# Altium integrated library Microchip Mixed Signal.IntLib: 1399 symbols (part 33 of 39)
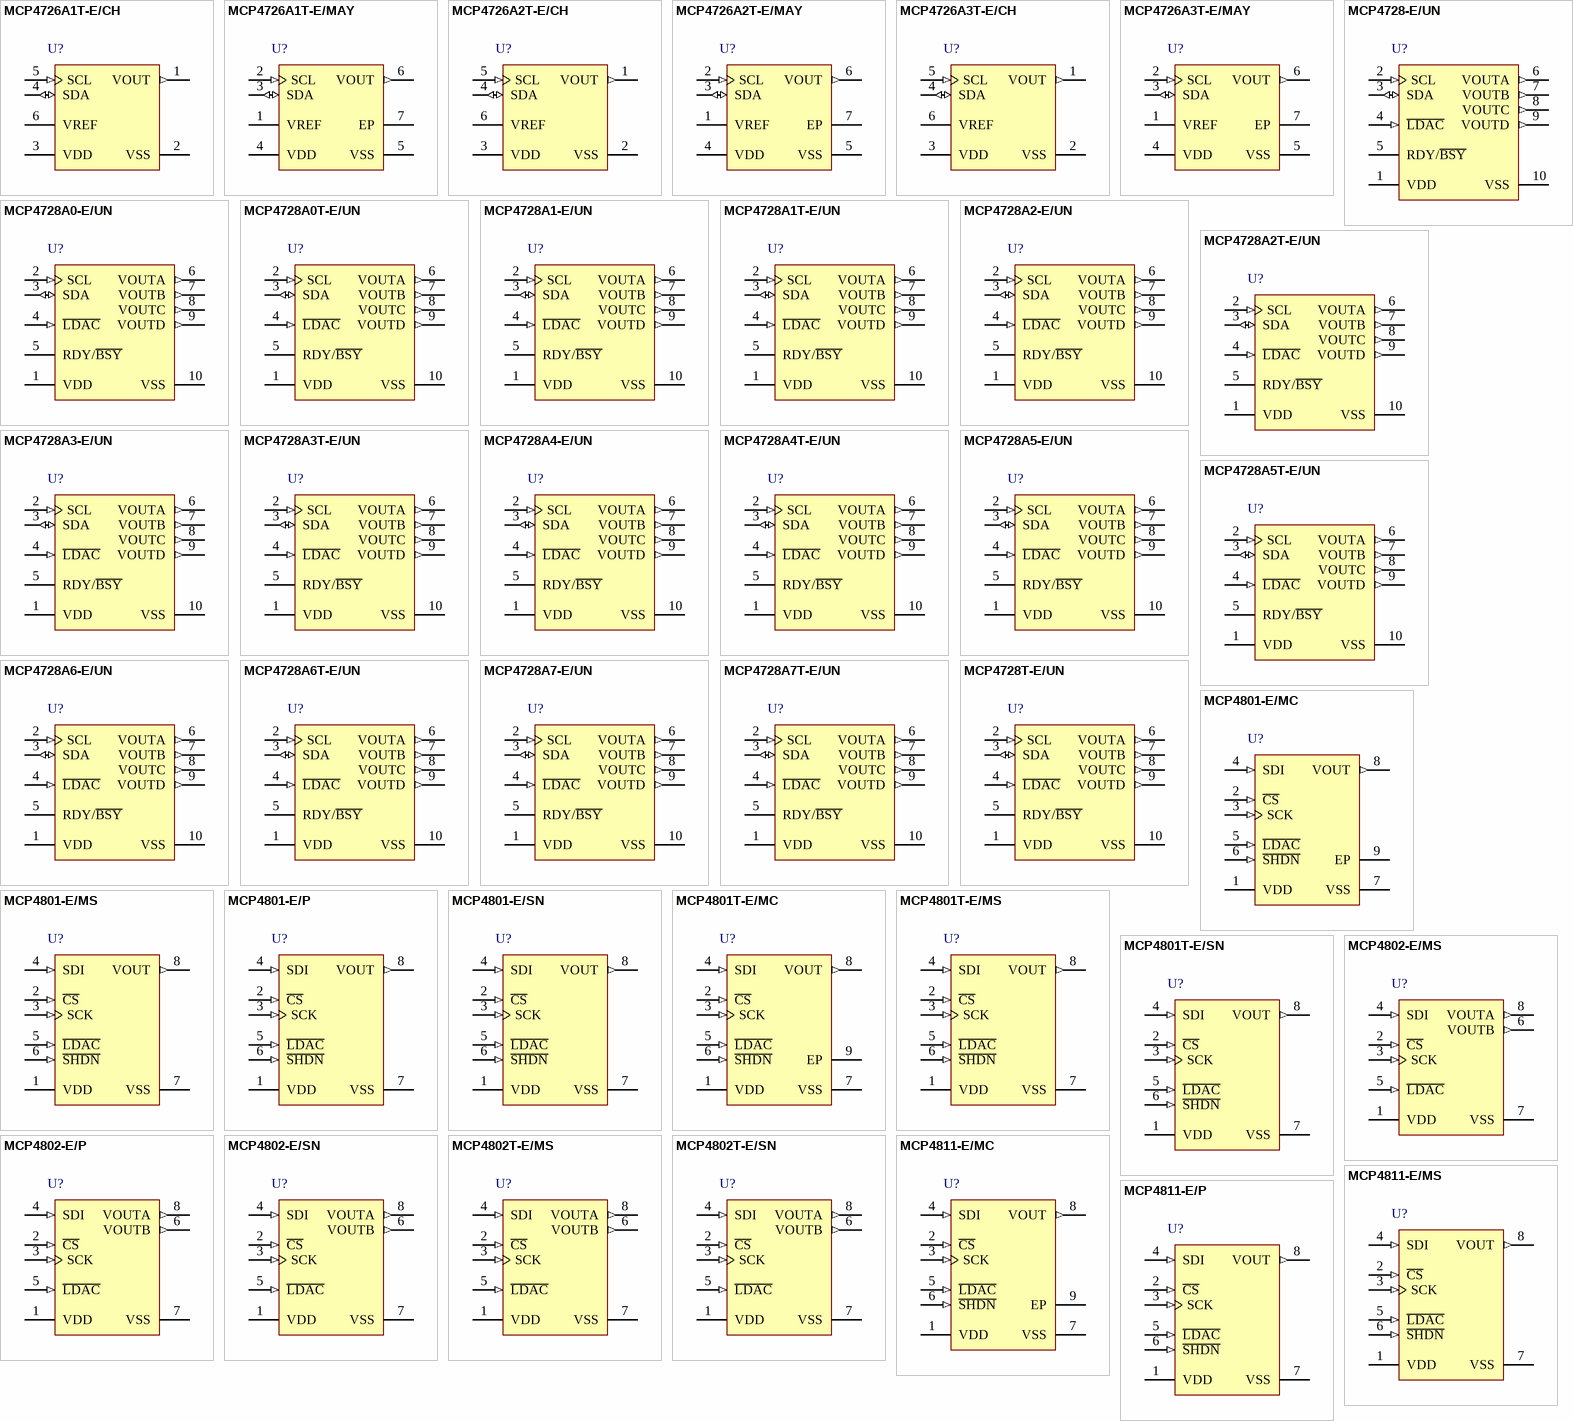
[diagram p76: symbols MCP4726A1T-E/CH to MCP4811-E/P]

## MCP4811-E/P
designator U?
10-Bit DACs with Internal VREF and SPI Interface, 8-Pin PDIP, Extended Temperature; Manufacturer: Microchip; PartNumber: MCP4811-E/P; DatasheetVersion: revB, Apr-2010; PackageVersion: revBB, Aug-2009; PackageReference: PDIP300-P8; PackageDescription: 8-Lead Plastic Dual In-Line (P) - 300 mil Body [PDIP]; Supplier 1: Digi-Key; Supplier Part Number 1: MCP4811-E/P-ND; Supplier 2: Farnell; Supplier Part Number 2: 1815941; Supplier 3: Newark; Supplier Part Number 3: 53R0077; Supplier 4: Mouser; Supplier Part Number 4: 579-MCP4811-E/P; Mounting Technology: Through Hole; Code_JEDEC: MS-001; ComponentLink1Description: Manufacturer URL; ComponentLink1URL: http://www.microchip.com/; ComponentLink2Description: Datasheet; ComponentLink2URL: http://ww1.microchip.com/downloads/en/DeviceDoc/22244B.pdf; ComponentLink3Description: Package Specification; ComponentLink3URL: http://www.microchip.com/stellent/groups/techpub_sg/documents/packagingspec/en012702.pdf
footprint PDIP300-P8 (DIP, 8-Leads, Row Spacing 7.62mm, Pitch 2.54mm, Body 9.5x6.6mm)
pins: 1 VDD (power), 2 ~{CS} (in), 3 SCK (in), 4 SDI (in), 5 ~{LDAC} (in), 6 ~{SHDN} (in), 7 VSS (power), 8 VOUT (out)

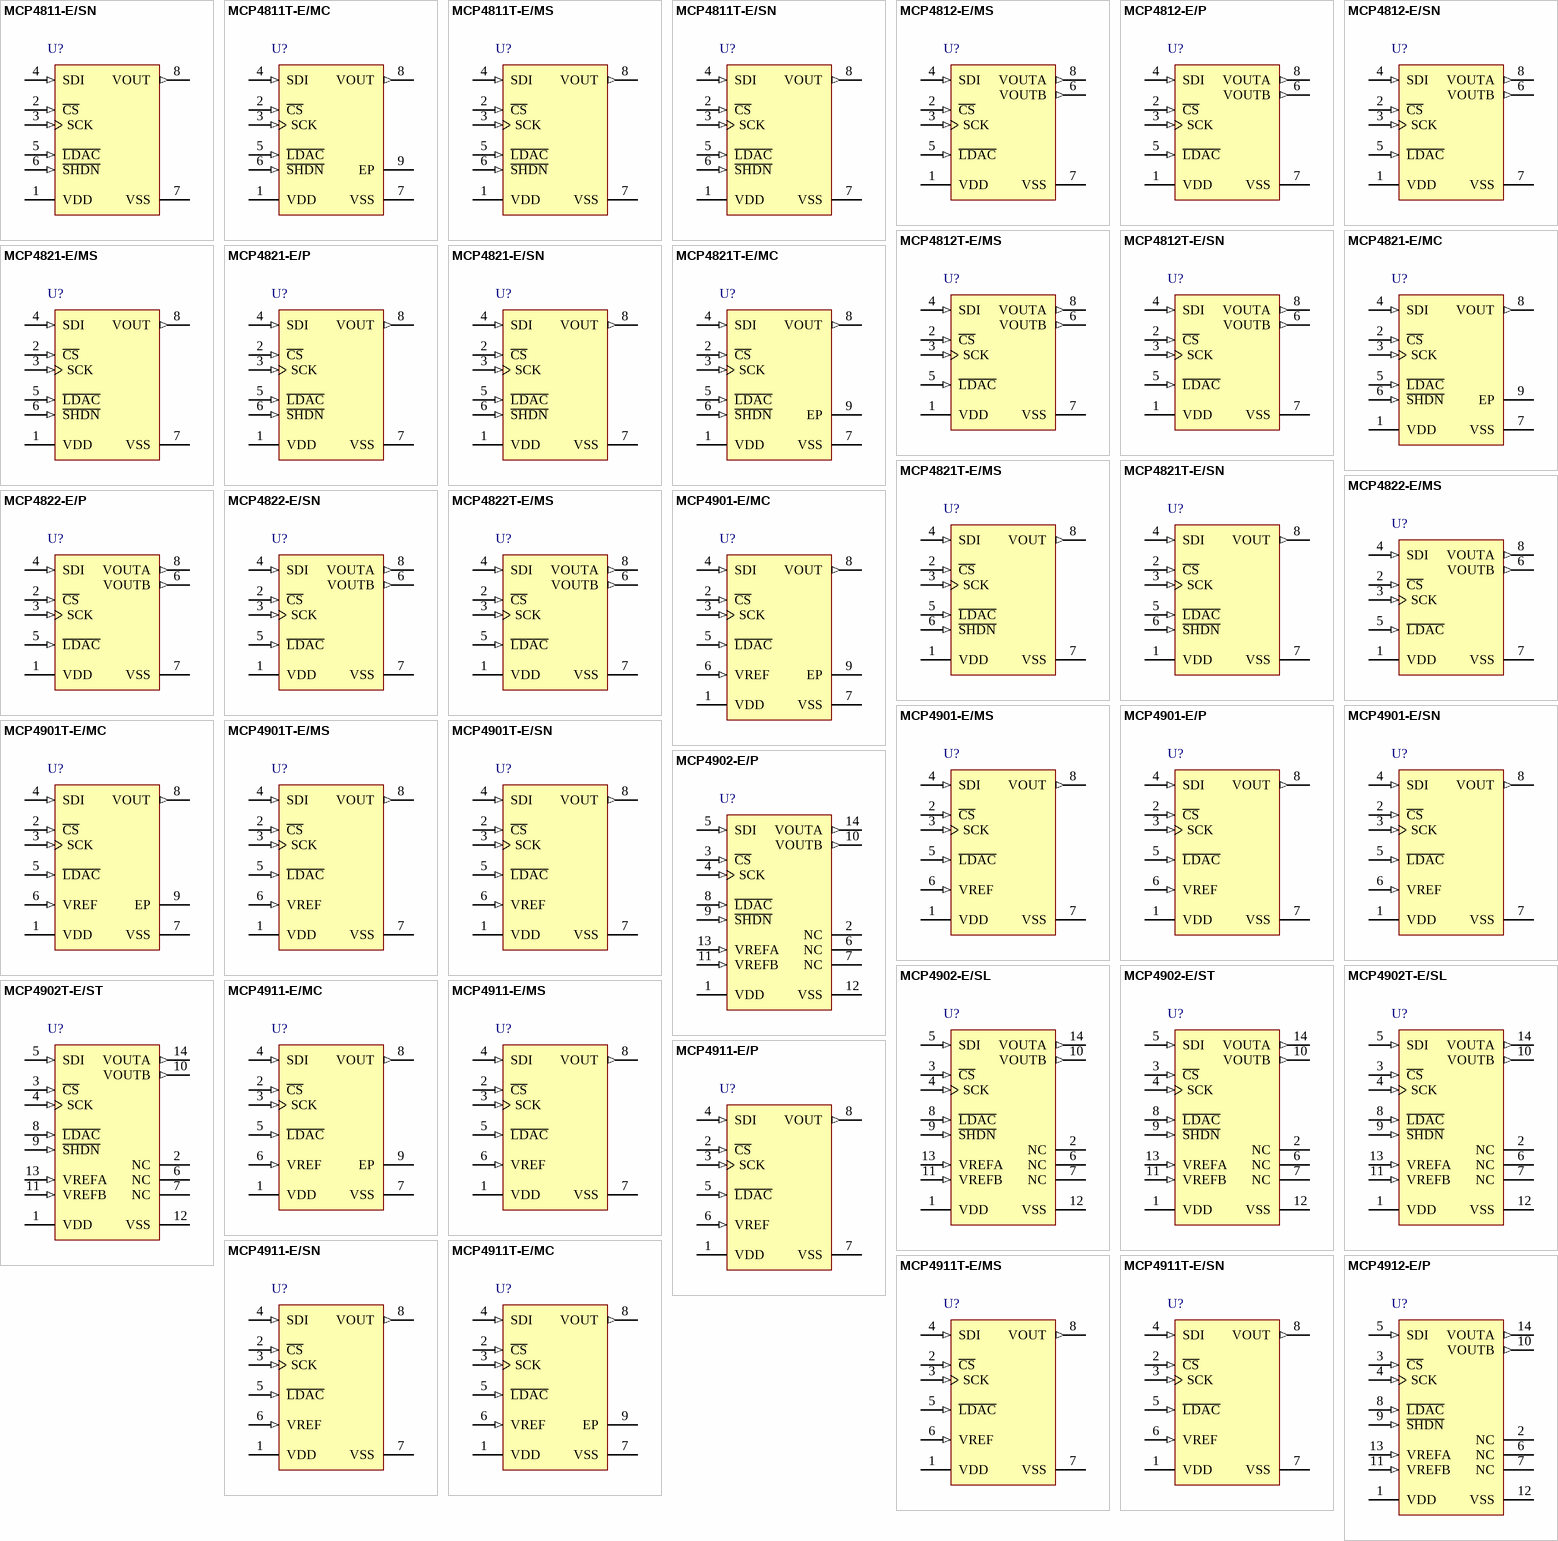
[diagram p34: symbols MCP4811-E/SN to MCP4912-E/P]

## MCP4811-E/SN
designator U?
10-Bit DACs with Internal VREF and SPI Interface, 8-Pin SOIC 150mil, Extended Temperature; Manufacturer: Microchip; PartNumber: MCP4811-E/SN; DatasheetVersion: revB, Apr-2010; PackageVersion: revBB, Aug-2009; PackageReference: SOIC-SN8; PackageDescription: 8-Lead Plastic Small Outline (SN) - Narrow, 3.90mm Body [SOIC]; Supplier 1: Digi-Key; Supplier Part Number 1: MCP4811-E/SN-ND; Supplier 2: Mouser; Supplier Part Number 2: 579-MCP4811-E/SN; Mounting Technology: Surface Mount; Code_JEDEC: MS-012; Code_IPC: SOIC127P600-8; ComponentLink1Description: Manufacturer URL; ComponentLink1URL: http://www.microchip.com/; ComponentLink2Description: Datasheet; ComponentLink2URL: http://ww1.microchip.com/downloads/en/DeviceDoc/22244B.pdf; ComponentLink3Description: Package Specification; ComponentLink3URL: http://www.microchip.com/stellent/groups/techpub_sg/documents/packagingspec/en012702.pdf
footprint SOIC-SN8_N (SOIC, 8-Leads, Body 4.9x3.8mm, Pitch 1.27mm, IPC Medium Density)
footprint SOIC-SN8_L (SOIC, 8-Leads, Body 4.9x3.8mm, Pitch 1.27mm, IPC High Density)
footprint SOIC-SN8_M (SOIC, 8-Leads, Body 4.9x3.8mm, Pitch 1.27mm, IPC Low Density)
pins: 1 VDD (power), 2 ~{CS} (in), 3 SCK (in), 4 SDI (in), 5 ~{LDAC} (in), 6 ~{SHDN} (in), 7 VSS (power), 8 VOUT (out)

## MCP4811T-E/MC
designator U?
10-Bit DACs with Internal VREF and SPI Interface, 8-Pin DFN, Extended Temperature, Tape and Reel; Manufacturer: Microchip; PartNumber: MCP4811T-E/MC; DatasheetVersion: revB, Apr-2010; PackageVersion: revBB, Aug-2009; PackageReference: DFN-MC8; PackageDescription: 8-Lead Plastic Dual Flat, No Lead Package (MC) - 2x3x0.9mm Body [DFN]; Supplier 1: Digi-Key; Supplier Part Number 1: MCP4811T-E/MC-ND; Supplier 2: Mouser; Supplier Part Number 2: 579-MCP4811T-E/MC; Mounting Technology: Surface Mount; ComponentLink1Description: Manufacturer URL; ComponentLink1URL: http://www.microchip.com/; ComponentLink2Description: Datasheet; ComponentLink2URL: http://ww1.microchip.com/downloads/en/DeviceDoc/22244B.pdf; ComponentLink3Description: Package Specification; ComponentLink3URL: http://www.microchip.com/stellent/groups/techpub_sg/documents/packagingspec/en012702.pdf
footprint DFN-MC8 (SON, 8-Leads, Body 2x3mm, Pitch 0.5mm, Microchip Recommended)
pins: 1 VDD (power), 2 ~{CS} (in), 3 SCK (in), 4 SDI (in), 5 ~{LDAC} (in), 6 ~{SHDN} (in), 7 VSS (power), 8 VOUT (out), 9 EP

## MCP4811T-E/MS
designator U?
10-Bit DACs with Internal VREF and SPI Interface, 8-Pin MSOP, Extended Temperature, Tape and Reel; Manufacturer: Microchip; PartNumber: MCP4811T-E/MS; DatasheetVersion: revB, Apr-2010; PackageVersion: revBB, Aug-2009; PackageReference: MSOP-MS8; PackageDescription: 8-Lead Plastic Micro Small Outline Package (MS) [MSOP]; Supplier 1: Digi-Key; Supplier Part Number 1: MCP4811T-E/MS-ND; Supplier 2: Mouser; Supplier Part Number 2: 579-MCP4811T-E/MS; Mounting Technology: Surface Mount; ComponentLink1Description: Manufacturer URL; ComponentLink1URL: http://www.microchip.com/; ComponentLink2Description: Datasheet; ComponentLink2URL: http://ww1.microchip.com/downloads/en/DeviceDoc/22244B.pdf; ComponentLink3Description: Package Specification; ComponentLink3URL: http://www.microchip.com/stellent/groups/techpub_sg/documents/packagingspec/en012702.pdf
footprint MSOP-MS8_N (TSOP, 8-Leads, Body 3x3mm, Pitch 0.65mm, IPC Medium Density)
footprint MSOP-MS8_L (TSOP, 8-Leads, Body 3x3mm, Pitch 0.65mm, IPC High Density)
footprint MSOP-MS8_M (TSOP, 8-Leads, Body 3x3mm, Pitch 0.65mm, IPC Low Density)
pins: 1 VDD (power), 2 ~{CS} (in), 3 SCK (in), 4 SDI (in), 5 ~{LDAC} (in), 6 ~{SHDN} (in), 7 VSS (power), 8 VOUT (out)

## MCP4811T-E/SN
designator U?
10-Bit DACs with Internal VREF and SPI Interface, 8-Pin SOIC 150mil, Extended Temperature, Tape and Reel; Manufacturer: Microchip; PartNumber: MCP4811T-E/SN; DatasheetVersion: revB, Apr-2010; PackageVersion: revBB, Aug-2009; PackageReference: SOIC-SN8; PackageDescription: 8-Lead Plastic Small Outline (SN) - Narrow, 3.90mm Body [SOIC]; Supplier 1: Digi-Key; Supplier Part Number 1: MCP4811T-E/SN-ND; Supplier 2: Mouser; Supplier Part Number 2: 579-MCP4811T-E/SN; Mounting Technology: Surface Mount; Code_JEDEC: MS-012; Code_IPC: SOIC127P600-8; ComponentLink1Description: Manufacturer URL; ComponentLink1URL: http://www.microchip.com/; ComponentLink2Description: Datasheet; ComponentLink2URL: http://ww1.microchip.com/downloads/en/DeviceDoc/22244B.pdf; ComponentLink3Description: Package Specification; ComponentLink3URL: http://www.microchip.com/stellent/groups/techpub_sg/documents/packagingspec/en012702.pdf
footprint SOIC-SN8_N (SOIC, 8-Leads, Body 4.9x3.8mm, Pitch 1.27mm, IPC Medium Density)
footprint SOIC-SN8_L (SOIC, 8-Leads, Body 4.9x3.8mm, Pitch 1.27mm, IPC High Density)
footprint SOIC-SN8_M (SOIC, 8-Leads, Body 4.9x3.8mm, Pitch 1.27mm, IPC Low Density)
pins: 1 VDD (power), 2 ~{CS} (in), 3 SCK (in), 4 SDI (in), 5 ~{LDAC} (in), 6 ~{SHDN} (in), 7 VSS (power), 8 VOUT (out)

## MCP4812-E/MS
designator U?
10-Bit DACs with Internal VREF and SPI Interface, 8-Pin MSOP, Extended Temperature; Manufacturer: Microchip; PartNumber: MCP4812-E/MS; DatasheetVersion: revA, Apr-2010; PackageVersion: revBB, Aug-2009; PackageReference: MSOP-MS8; PackageDescription: 8-Lead Plastic Micro Small Outline Package (MS) [MSOP]; Supplier 1: Digi-Key; Supplier Part Number 1: MCP4812-E/MS-ND; Supplier 2: Newark; Supplier Part Number 2: 53R0082; Supplier 3: Mouser; Supplier Part Number 3: 579-MCP4812-E/MS; Mounting Technology: Surface Mount; ComponentLink1Description: Manufacturer URL; ComponentLink1URL: http://www.microchip.com/; ComponentLink2Description: Datasheet; ComponentLink2URL: http://ww1.microchip.com/downloads/en/DeviceDoc/22249A.pdf; ComponentLink3Description: Package Specification; ComponentLink3URL: http://www.microchip.com/stellent/groups/techpub_sg/documents/packagingspec/en012702.pdf
footprint MSOP-MS8_N (TSOP, 8-Leads, Body 3x3mm, Pitch 0.65mm, IPC Medium Density)
footprint MSOP-MS8_L (TSOP, 8-Leads, Body 3x3mm, Pitch 0.65mm, IPC High Density)
footprint MSOP-MS8_M (TSOP, 8-Leads, Body 3x3mm, Pitch 0.65mm, IPC Low Density)
pins: 1 VDD (power), 2 ~{CS} (in), 3 SCK (in), 4 SDI (in), 5 ~{LDAC} (in), 6 VOUTB (out), 7 VSS (power), 8 VOUTA (out)

## MCP4812-E/P
designator U?
10-Bit DACs with Internal VREF and SPI Interface, 8-Pin PDIP, Extended Temperature; Manufacturer: Microchip; PartNumber: MCP4812-E/P; DatasheetVersion: revA, Apr-2010; PackageVersion: revBB, Aug-2009; PackageReference: PDIP300-P8; PackageDescription: 8-Lead Plastic Dual In-Line (P) - 300 mil Body [PDIP]; Supplier 1: Digi-Key; Supplier Part Number 1: MCP4812-E/P-ND; Supplier 2: Farnell; Supplier Part Number 2: 1815943; Supplier 3: Newark; Supplier Part Number 3: 53R0083; Supplier 4: Mouser; Supplier Part Number 4: 579-MCP4812-E/P; Mounting Technology: Through Hole; Code_JEDEC: MS-001; ComponentLink1Description: Manufacturer URL; ComponentLink1URL: http://www.microchip.com/; ComponentLink2Description: Datasheet; ComponentLink2URL: http://ww1.microchip.com/downloads/en/DeviceDoc/22249A.pdf; ComponentLink3Description: Package Specification; ComponentLink3URL: http://www.microchip.com/stellent/groups/techpub_sg/documents/packagingspec/en012702.pdf
footprint PDIP300-P8 (DIP, 8-Leads, Row Spacing 7.62mm, Pitch 2.54mm, Body 9.5x6.6mm)
pins: 1 VDD (power), 2 ~{CS} (in), 3 SCK (in), 4 SDI (in), 5 ~{LDAC} (in), 6 VOUTB (out), 7 VSS (power), 8 VOUTA (out)

## MCP4812-E/SN
designator U?
10-Bit DACs with Internal VREF and SPI Interface, 8-Pin SOIC 150mil, Extended Temperature; Manufacturer: Microchip; PartNumber: MCP4812-E/SN; DatasheetVersion: revA, Apr-2010; PackageVersion: revBB, Aug-2009; PackageReference: SOIC-SN8; PackageDescription: 8-Lead Plastic Small Outline (SN) - Narrow, 3.90mm Body [SOIC]; Supplier 1: Digi-Key; Supplier Part Number 1: MCP4812-E/SN-ND; Supplier 2: Farnell; Supplier Part Number 2: 1834912; Supplier 3: Newark; Supplier Part Number 3: 53R0084; Supplier 4: Mouser; Supplier Part Number 4: 579-MCP4812-E/SN; Mounting Technology: Surface Mount; Code_JEDEC: MS-012; Code_IPC: SOIC127P600-8; ComponentLink1Description: Manufacturer URL; ComponentLink1URL: http://www.microchip.com/; ComponentLink2Description: Datasheet; ComponentLink2URL: http://ww1.microchip.com/downloads/en/DeviceDoc/22249A.pdf; ComponentLink3Description: Package Specification; ComponentLink3URL: http://www.microchip.com/stellent/groups/techpub_sg/documents/packagingspec/en012702.pdf
footprint SOIC-SN8_N (SOIC, 8-Leads, Body 4.9x3.8mm, Pitch 1.27mm, IPC Medium Density)
footprint SOIC-SN8_L (SOIC, 8-Leads, Body 4.9x3.8mm, Pitch 1.27mm, IPC High Density)
footprint SOIC-SN8_M (SOIC, 8-Leads, Body 4.9x3.8mm, Pitch 1.27mm, IPC Low Density)
pins: 1 VDD (power), 2 ~{CS} (in), 3 SCK (in), 4 SDI (in), 5 ~{LDAC} (in), 6 VOUTB (out), 7 VSS (power), 8 VOUTA (out)

## MCP4812T-E/MS
designator U?
10-Bit DACs with Internal VREF and SPI Interface, 8-Pin MSOP, Extended Temperature, Tape and Reel; Manufacturer: Microchip; PartNumber: MCP4812T-E/MS; DatasheetVersion: revA, Apr-2010; PackageVersion: revBB, Aug-2009; PackageReference: MSOP-MS8; PackageDescription: 8-Lead Plastic Micro Small Outline Package (MS) [MSOP]; Supplier 1: Digi-Key; Supplier Part Number 1: MCP4812T-E/MS-ND; Supplier 2: Mouser; Supplier Part Number 2: 579-MCP4812T-E/MS; Mounting Technology: Surface Mount; ComponentLink1Description: Manufacturer URL; ComponentLink1URL: http://www.microchip.com/; ComponentLink2Description: Datasheet; ComponentLink2URL: http://ww1.microchip.com/downloads/en/DeviceDoc/22249A.pdf; ComponentLink3Description: Package Specification; ComponentLink3URL: http://www.microchip.com/stellent/groups/techpub_sg/documents/packagingspec/en012702.pdf
footprint MSOP-MS8_N (TSOP, 8-Leads, Body 3x3mm, Pitch 0.65mm, IPC Medium Density)
footprint MSOP-MS8_L (TSOP, 8-Leads, Body 3x3mm, Pitch 0.65mm, IPC High Density)
footprint MSOP-MS8_M (TSOP, 8-Leads, Body 3x3mm, Pitch 0.65mm, IPC Low Density)
pins: 1 VDD (power), 2 ~{CS} (in), 3 SCK (in), 4 SDI (in), 5 ~{LDAC} (in), 6 VOUTB (out), 7 VSS (power), 8 VOUTA (out)

## MCP4812T-E/SN
designator U?
10-Bit DACs with Internal VREF and SPI Interface, 8-Pin SOIC 150mil, Extended Temperature, Tape and Reel; Manufacturer: Microchip; PartNumber: MCP4812T-E/SN; DatasheetVersion: revA, Apr-2010; PackageVersion: revBB, Aug-2009; PackageReference: SOIC-SN8; PackageDescription: 8-Lead Plastic Small Outline (SN) - Narrow, 3.90mm Body [SOIC]; Mounting Technology: Surface Mount; Code_JEDEC: MS-012; Code_IPC: SOIC127P600-8; ComponentLink1Description: Manufacturer URL; ComponentLink1URL: http://www.microchip.com/; ComponentLink2Description: Datasheet; ComponentLink2URL: http://ww1.microchip.com/downloads/en/DeviceDoc/22249A.pdf; ComponentLink3Description: Package Specification; ComponentLink3URL: http://www.microchip.com/stellent/groups/techpub_sg/documents/packagingspec/en012702.pdf
footprint SOIC-SN8_N (SOIC, 8-Leads, Body 4.9x3.8mm, Pitch 1.27mm, IPC Medium Density)
footprint SOIC-SN8_L (SOIC, 8-Leads, Body 4.9x3.8mm, Pitch 1.27mm, IPC High Density)
footprint SOIC-SN8_M (SOIC, 8-Leads, Body 4.9x3.8mm, Pitch 1.27mm, IPC Low Density)
pins: 1 VDD (power), 2 ~{CS} (in), 3 SCK (in), 4 SDI (in), 5 ~{LDAC} (in), 6 VOUTB (out), 7 VSS (power), 8 VOUTA (out)

## MCP4821-E/MC
designator U?
12-Bit DACs with Internal VREF and SPI Interface, 8-PinDFN, Extended Temperature; Manufacturer: Microchip; PartNumber: MCP4821-E/MC; DatasheetVersion: revB, Apr-2010; PackageVersion: revBB, Aug-2009; PackageReference: DFN-MC8; PackageDescription: 8-Lead Plastic Dual Flat, No Lead Package (MC) - 2x3x0.9mm Body [DFN]; Supplier 1: Digi-Key; Supplier Part Number 1: MCP4821-E/MC-ND; Supplier 2: Mouser; Supplier Part Number 2: 579-MCP4821-E/MC; Mounting Technology: Surface Mount; ComponentLink1Description: Manufacturer URL; ComponentLink1URL: http://www.microchip.com/; ComponentLink2Description: Datasheet; ComponentLink2URL: http://ww1.microchip.com/downloads/en/DeviceDoc/22244B.pdf; ComponentLink3Description: Package Specification; ComponentLink3URL: http://www.microchip.com/stellent/groups/techpub_sg/documents/packagingspec/en012702.pdf
footprint DFN-MC8 (SON, 8-Leads, Body 2x3mm, Pitch 0.5mm, Microchip Recommended)
pins: 1 VDD (power), 2 ~{CS} (in), 3 SCK (in), 4 SDI (in), 5 ~{LDAC} (in), 6 ~{SHDN} (in), 7 VSS (power), 8 VOUT (out), 9 EP

## MCP4821-E/MS
designator U?
12-Bit DACs with Internal VREF and SPI Interface, 8-Pin MSOP, Extended Temperature; Manufacturer: Microchip; PartNumber: MCP4821-E/MS; DatasheetVersion: revB, Apr-2010; PackageVersion: revBB, Aug-2009; PackageReference: MSOP-MS8; PackageDescription: 8-Lead Plastic Micro Small Outline Package (MS) [MSOP]; Supplier 1: Digi-Key; Supplier Part Number 1: MCP4821-E/MS-ND; Supplier 2: Farnell; Supplier Part Number 2: 1840943; Supplier 3: Newark; Supplier Part Number 3: 31K2968; Supplier 4: Mouser; Supplier Part Number 4: 579-MCP4821-E/MS; Mounting Technology: Surface Mount; ComponentLink1Description: Manufacturer URL; ComponentLink1URL: http://www.microchip.com/; ComponentLink2Description: Datasheet; ComponentLink2URL: http://ww1.microchip.com/downloads/en/DeviceDoc/22244B.pdf; ComponentLink3Description: Package Specification; ComponentLink3URL: http://www.microchip.com/stellent/groups/techpub_sg/documents/packagingspec/en012702.pdf
footprint MSOP-MS8_N (TSOP, 8-Leads, Body 3x3mm, Pitch 0.65mm, IPC Medium Density)
footprint MSOP-MS8_L (TSOP, 8-Leads, Body 3x3mm, Pitch 0.65mm, IPC High Density)
footprint MSOP-MS8_M (TSOP, 8-Leads, Body 3x3mm, Pitch 0.65mm, IPC Low Density)
pins: 1 VDD (power), 2 ~{CS} (in), 3 SCK (in), 4 SDI (in), 5 ~{LDAC} (in), 6 ~{SHDN} (in), 7 VSS (power), 8 VOUT (out)

## MCP4821-E/P
designator U?
12-Bit DACs with Internal VREF and SPI Interface, 8-Pin PDIP, Extended Temperature; Manufacturer: Microchip; PartNumber: MCP4821-E/P; DatasheetVersion: revB, Apr-2010; PackageVersion: revBB, Aug-2009; PackageReference: PDIP300-P8; PackageDescription: 8-Lead Plastic Dual In-Line (P) - 300 mil Body [PDIP]; Supplier 1: Digi-Key; Supplier Part Number 1: MCP4821-E/P-ND; Supplier 2: Farnell; Supplier Part Number 2: 1439411; Supplier 3: Newark; Supplier Part Number 3: 58M8924; Supplier 4: Mouser; Supplier Part Number 4: 579-MCP4821-E/P; Mounting Technology: Through Hole; Code_JEDEC: MS-001; ComponentLink1Description: Manufacturer URL; ComponentLink1URL: http://www.microchip.com/; ComponentLink2Description: Datasheet; ComponentLink2URL: http://ww1.microchip.com/downloads/en/DeviceDoc/22244B.pdf; ComponentLink3Description: Package Specification; ComponentLink3URL: http://www.microchip.com/stellent/groups/techpub_sg/documents/packagingspec/en012702.pdf
footprint PDIP300-P8 (DIP, 8-Leads, Row Spacing 7.62mm, Pitch 2.54mm, Body 9.5x6.6mm)
pins: 1 VDD (power), 2 ~{CS} (in), 3 SCK (in), 4 SDI (in), 5 ~{LDAC} (in), 6 ~{SHDN} (in), 7 VSS (power), 8 VOUT (out)

## MCP4821-E/SN
designator U?
12-Bit DACs with Internal VREF and SPI Interface, 8-Pin SOIC 150mil, Extended Temperature; Manufacturer: Microchip; PartNumber: MCP4821-E/SN; DatasheetVersion: revB, Apr-2010; PackageVersion: revBB, Aug-2009; PackageReference: SOIC-SN8; PackageDescription: 8-Lead Plastic Small Outline (SN) - Narrow, 3.90mm Body [SOIC]; Supplier 1: Digi-Key; Supplier Part Number 1: MCP4821-E/SN-ND; Supplier 2: Farnell; Supplier Part Number 2: 1439412; Supplier 3: Newark; Supplier Part Number 3: 31K2970; Supplier 4: Mouser; Supplier Part Number 4: 579-MCP4821-E/SN; Mounting Technology: Surface Mount; Code_JEDEC: MS-012; Code_IPC: SOIC127P600-8; ComponentLink1Description: Manufacturer URL; ComponentLink1URL: http://www.microchip.com/; ComponentLink2Description: Datasheet; ComponentLink2URL: http://ww1.microchip.com/downloads/en/DeviceDoc/22244B.pdf; ComponentLink3Description: Package Specification; ComponentLink3URL: http://www.microchip.com/stellent/groups/techpub_sg/documents/packagingspec/en012702.pdf
footprint SOIC-SN8_N (SOIC, 8-Leads, Body 4.9x3.8mm, Pitch 1.27mm, IPC Medium Density)
footprint SOIC-SN8_L (SOIC, 8-Leads, Body 4.9x3.8mm, Pitch 1.27mm, IPC High Density)
footprint SOIC-SN8_M (SOIC, 8-Leads, Body 4.9x3.8mm, Pitch 1.27mm, IPC Low Density)
pins: 1 VDD (power), 2 ~{CS} (in), 3 SCK (in), 4 SDI (in), 5 ~{LDAC} (in), 6 ~{SHDN} (in), 7 VSS (power), 8 VOUT (out)

## MCP4821T-E/MC
designator U?
12-Bit DACs with Internal VREF and SPI Interface, 8-PinDFN, Extended Temperature, Tape and Reel; Manufacturer: Microchip; PartNumber: MCP4821T-E/MC; DatasheetVersion: revB, Apr-2010; PackageVersion: revBB, Aug-2009; PackageReference: DFN-MC8; PackageDescription: 8-Lead Plastic Dual Flat, No Lead Package (MC) - 2x3x0.9mm Body [DFN]; Supplier 1: Digi-Key; Supplier Part Number 1: MCP4821T-E/MC-ND; Supplier 2: Mouser; Supplier Part Number 2: 579-MCP4821T-E/MC; Mounting Technology: Surface Mount; ComponentLink1Description: Manufacturer URL; ComponentLink1URL: http://www.microchip.com/; ComponentLink2Description: Datasheet; ComponentLink2URL: http://ww1.microchip.com/downloads/en/DeviceDoc/22244B.pdf; ComponentLink3Description: Package Specification; ComponentLink3URL: http://www.microchip.com/stellent/groups/techpub_sg/documents/packagingspec/en012702.pdf
footprint DFN-MC8 (SON, 8-Leads, Body 2x3mm, Pitch 0.5mm, Microchip Recommended)
pins: 1 VDD (power), 2 ~{CS} (in), 3 SCK (in), 4 SDI (in), 5 ~{LDAC} (in), 6 ~{SHDN} (in), 7 VSS (power), 8 VOUT (out), 9 EP

## MCP4821T-E/MS
designator U?
12-Bit DACs with Internal VREF and SPI Interface, 8-Pin MSOP, Extended Temperature, Tape and Reel; Manufacturer: Microchip; PartNumber: MCP4821T-E/MS; DatasheetVersion: revB, Apr-2010; PackageVersion: revBB, Aug-2009; PackageReference: MSOP-MS8; PackageDescription: 8-Lead Plastic Micro Small Outline Package (MS) [MSOP]; Supplier 1: Digi-Key; Supplier Part Number 1: MCP4821T-E/MS-ND; Supplier 2: Mouser; Supplier Part Number 2: 579-MCP4821T-E/MS; Mounting Technology: Surface Mount; ComponentLink1Description: Manufacturer URL; ComponentLink1URL: http://www.microchip.com/; ComponentLink2Description: Datasheet; ComponentLink2URL: http://ww1.microchip.com/downloads/en/DeviceDoc/22244B.pdf; ComponentLink3Description: Package Specification; ComponentLink3URL: http://www.microchip.com/stellent/groups/techpub_sg/documents/packagingspec/en012702.pdf
footprint MSOP-MS8_N (TSOP, 8-Leads, Body 3x3mm, Pitch 0.65mm, IPC Medium Density)
footprint MSOP-MS8_L (TSOP, 8-Leads, Body 3x3mm, Pitch 0.65mm, IPC High Density)
footprint MSOP-MS8_M (TSOP, 8-Leads, Body 3x3mm, Pitch 0.65mm, IPC Low Density)
pins: 1 VDD (power), 2 ~{CS} (in), 3 SCK (in), 4 SDI (in), 5 ~{LDAC} (in), 6 ~{SHDN} (in), 7 VSS (power), 8 VOUT (out)

## MCP4821T-E/SN
designator U?
12-Bit DACs with Internal VREF and SPI Interface, 8-Pin SOIC 150mil, Extended Temperature, Tape and Reel; Manufacturer: Microchip; PartNumber: MCP4821T-E/SN; DatasheetVersion: revB, Apr-2010; PackageVersion: revBB, Aug-2009; PackageReference: SOIC-SN8; PackageDescription: 8-Lead Plastic Small Outline (SN) - Narrow, 3.90mm Body [SOIC]; Supplier 1: Digi-Key; Supplier Part Number 1: MCP4821T-E/SN-ND; Supplier 2: Newark; Supplier Part Number 2: 31K2972; Supplier 3: Mouser; Supplier Part Number 3: 579-MCP4821T-E/SN; Mounting Technology: Surface Mount; Code_JEDEC: MS-012; Code_IPC: SOIC127P600-8; ComponentLink1Description: Manufacturer URL; ComponentLink1URL: http://www.microchip.com/; ComponentLink2Description: Datasheet; ComponentLink2URL: http://ww1.microchip.com/downloads/en/DeviceDoc/22244B.pdf; ComponentLink3Description: Package Specification; ComponentLink3URL: http://www.microchip.com/stellent/groups/techpub_sg/documents/packagingspec/en012702.pdf
footprint SOIC-SN8_N (SOIC, 8-Leads, Body 4.9x3.8mm, Pitch 1.27mm, IPC Medium Density)
footprint SOIC-SN8_L (SOIC, 8-Leads, Body 4.9x3.8mm, Pitch 1.27mm, IPC High Density)
footprint SOIC-SN8_M (SOIC, 8-Leads, Body 4.9x3.8mm, Pitch 1.27mm, IPC Low Density)
pins: 1 VDD (power), 2 ~{CS} (in), 3 SCK (in), 4 SDI (in), 5 ~{LDAC} (in), 6 ~{SHDN} (in), 7 VSS (power), 8 VOUT (out)

## MCP4822-E/MS
designator U?
12-Bit DACs with Internal VREF and SPI Interface, 8-Pin MSOP, Extended Temperature; Manufacturer: Microchip; PartNumber: MCP4822-E/MS; DatasheetVersion: revA, Apr-2010; PackageVersion: revBB, Aug-2009; PackageReference: MSOP-MS8; PackageDescription: 8-Lead Plastic Micro Small Outline Package (MS) [MSOP]; Supplier 1: Digi-Key; Supplier Part Number 1: MCP4822-E/MS-ND; Supplier 2: Farnell; Supplier Part Number 2: 1840942; Supplier 3: Newark; Supplier Part Number 3: 31K2973; Supplier 4: Mouser; Supplier Part Number 4: 579-MCP4822-E/MS; Mounting Technology: Surface Mount; ComponentLink1Description: Manufacturer URL; ComponentLink1URL: http://www.microchip.com/; ComponentLink2Description: Datasheet; ComponentLink2URL: http://ww1.microchip.com/downloads/en/DeviceDoc/22249A.pdf; ComponentLink3Description: Package Specification; ComponentLink3URL: http://www.microchip.com/stellent/groups/techpub_sg/documents/packagingspec/en012702.pdf
footprint MSOP-MS8_N (TSOP, 8-Leads, Body 3x3mm, Pitch 0.65mm, IPC Medium Density)
footprint MSOP-MS8_L (TSOP, 8-Leads, Body 3x3mm, Pitch 0.65mm, IPC High Density)
footprint MSOP-MS8_M (TSOP, 8-Leads, Body 3x3mm, Pitch 0.65mm, IPC Low Density)
pins: 1 VDD (power), 2 ~{CS} (in), 3 SCK (in), 4 SDI (in), 5 ~{LDAC} (in), 6 VOUTB (out), 7 VSS (power), 8 VOUTA (out)

## MCP4822-E/P
designator U?
12-Bit DACs with Internal VREF and SPI Interface, 8-Pin PDIP, Extended Temperature; Manufacturer: Microchip; PartNumber: MCP4822-E/P; DatasheetVersion: revA, Apr-2010; PackageVersion: revBB, Aug-2009; PackageReference: PDIP300-P8; PackageDescription: 8-Lead Plastic Dual In-Line (P) - 300 mil Body [PDIP]; Supplier 1: Digi-Key; Supplier Part Number 1: MCP4822-E/P-ND; Supplier 2: Farnell; Supplier Part Number 2: 1439413; Supplier 3: Newark; Supplier Part Number 3: 11M1705; Supplier 4: Mouser; Supplier Part Number 4: 579-MCP4822-E/P; Mounting Technology: Through Hole; Code_JEDEC: MS-001; ComponentLink1Description: Manufacturer URL; ComponentLink1URL: http://www.microchip.com/; ComponentLink2Description: Datasheet; ComponentLink2URL: http://ww1.microchip.com/downloads/en/DeviceDoc/22249A.pdf; ComponentLink3Description: Package Specification; ComponentLink3URL: http://www.microchip.com/stellent/groups/techpub_sg/documents/packagingspec/en012702.pdf
footprint PDIP300-P8 (DIP, 8-Leads, Row Spacing 7.62mm, Pitch 2.54mm, Body 9.5x6.6mm)
pins: 1 VDD (power), 2 ~{CS} (in), 3 SCK (in), 4 SDI (in), 5 ~{LDAC} (in), 6 VOUTB (out), 7 VSS (power), 8 VOUTA (out)

## MCP4822-E/SN
designator U?
12-Bit DACs with Internal VREF and SPI Interface, 8-Pin SOIC 150mil, Extended Temperature; Manufacturer: Microchip; PartNumber: MCP4822-E/SN; DatasheetVersion: revA, Apr-2010; PackageVersion: revBB, Aug-2009; PackageReference: SOIC-SN8; PackageDescription: 8-Lead Plastic Small Outline (SN) - Narrow, 3.90mm Body [SOIC]; Supplier 1: Digi-Key; Supplier Part Number 1: MCP4822-E/SN-ND; Supplier 2: Farnell; Supplier Part Number 2: 1439414; Supplier 3: Newark; Supplier Part Number 3: 31K2975; Supplier 4: Mouser; Supplier Part Number 4: 579-MCP4822-E/SN; Mounting Technology: Surface Mount; Code_JEDEC: MS-012; Code_IPC: SOIC127P600-8; ComponentLink1Description: Manufacturer URL; ComponentLink1URL: http://www.microchip.com/; ComponentLink2Description: Datasheet; ComponentLink2URL: http://ww1.microchip.com/downloads/en/DeviceDoc/22249A.pdf; ComponentLink3Description: Package Specification; ComponentLink3URL: http://www.microchip.com/stellent/groups/techpub_sg/documents/packagingspec/en012702.pdf
footprint SOIC-SN8_N (SOIC, 8-Leads, Body 4.9x3.8mm, Pitch 1.27mm, IPC Medium Density)
footprint SOIC-SN8_L (SOIC, 8-Leads, Body 4.9x3.8mm, Pitch 1.27mm, IPC High Density)
footprint SOIC-SN8_M (SOIC, 8-Leads, Body 4.9x3.8mm, Pitch 1.27mm, IPC Low Density)
pins: 1 VDD (power), 2 ~{CS} (in), 3 SCK (in), 4 SDI (in), 5 ~{LDAC} (in), 6 VOUTB (out), 7 VSS (power), 8 VOUTA (out)

## MCP4822T-E/MS
designator U?
12-Bit DACs with Internal VREF and SPI Interface, 8-Pin MSOP, Extended Temperature, Tape and Reel; Manufacturer: Microchip; PartNumber: MCP4822T-E/MS; DatasheetVersion: revA, Apr-2010; PackageVersion: revBB, Aug-2009; PackageReference: MSOP-MS8; PackageDescription: 8-Lead Plastic Micro Small Outline Package (MS) [MSOP]; Supplier 1: Digi-Key; Supplier Part Number 1: MCP4822T-E/MS-ND; Supplier 2: Mouser; Supplier Part Number 2: 579-MCP4822T-E/MS; Mounting Technology: Surface Mount; ComponentLink1Description: Manufacturer URL; ComponentLink1URL: http://www.microchip.com/; ComponentLink2Description: Datasheet; ComponentLink2URL: http://ww1.microchip.com/downloads/en/DeviceDoc/22249A.pdf; ComponentLink3Description: Package Specification; ComponentLink3URL: http://www.microchip.com/stellent/groups/techpub_sg/documents/packagingspec/en012702.pdf
footprint MSOP-MS8_N (TSOP, 8-Leads, Body 3x3mm, Pitch 0.65mm, IPC Medium Density)
footprint MSOP-MS8_L (TSOP, 8-Leads, Body 3x3mm, Pitch 0.65mm, IPC High Density)
footprint MSOP-MS8_M (TSOP, 8-Leads, Body 3x3mm, Pitch 0.65mm, IPC Low Density)
pins: 1 VDD (power), 2 ~{CS} (in), 3 SCK (in), 4 SDI (in), 5 ~{LDAC} (in), 6 VOUTB (out), 7 VSS (power), 8 VOUTA (out)

## MCP4901-E/MC
designator U?
8-Bit DAC with SPI Interface, 8-Pin DFN, Extended Temperature; Manufacturer: Microchip; PartNumber: MCP4901-E/MC; DatasheetVersion: revA, Apr-2010; PackageVersion: revBB, Aug-2009; PackageReference: DFN-MC8; PackageDescription: 8-Lead Plastic Dual Flat, No Lead Package (MC) - 2x3x0.9mm Body [DFN]; Supplier 1: Digi-Key; Supplier Part Number 1: MCP4901-E/MC-ND; Supplier 2: Farnell; Supplier Part Number 2: 2128523; Supplier 3: Newark; Supplier Part Number 3: 53R0088; Supplier 4: Mouser; Supplier Part Number 4: 579-MCP4901-E/MC; Mounting Technology: Surface Mount; ComponentLink1Description: Manufacturer URL; ComponentLink1URL: http://www.microchip.com/; ComponentLink2Description: Datasheet; ComponentLink2URL: http://ww1.microchip.com/downloads/en/DeviceDoc/22248a.pdf; ComponentLink3Description: Package Specification; ComponentLink3URL: http://www.microchip.com/stellent/groups/techpub_sg/documents/packagingspec/en012702.pdf
footprint DFN-MC8 (SON, 8-Leads, Body 2x3mm, Pitch 0.5mm, Microchip Recommended)
pins: 1 VDD (power), 2 ~{CS} (in), 3 SCK (in), 4 SDI (in), 5 ~{LDAC} (in), 6 VREF (in), 7 VSS (power), 8 VOUT (out), 9 EP

## MCP4901-E/MS
designator U?
8-Bit DAC with SPI Interface, 8-Pin MSOP, Extended Temperature; Manufacturer: Microchip; PartNumber: MCP4901-E/MS; DatasheetVersion: revA, Apr-2010; PackageVersion: revBB, Aug-2009; PackageReference: MSOP-MS8; PackageDescription: 8-Lead Plastic Micro Small Outline Package (MS) [MSOP]; Supplier 1: Digi-Key; Supplier Part Number 1: MCP4901-E/MS-ND; Supplier 2: Newark; Supplier Part Number 2: 53R0089; Supplier 3: Mouser; Supplier Part Number 3: 579-MCP4901-E/MS; Mounting Technology: Surface Mount; ComponentLink1Description: Manufacturer URL; ComponentLink1URL: http://www.microchip.com/; ComponentLink2Description: Datasheet; ComponentLink2URL: http://ww1.microchip.com/downloads/en/DeviceDoc/22248a.pdf; ComponentLink3Description: Package Specification; ComponentLink3URL: http://www.microchip.com/stellent/groups/techpub_sg/documents/packagingspec/en012702.pdf
footprint MSOP-MS8_N (TSOP, 8-Leads, Body 3x3mm, Pitch 0.65mm, IPC Medium Density)
footprint MSOP-MS8_L (TSOP, 8-Leads, Body 3x3mm, Pitch 0.65mm, IPC High Density)
footprint MSOP-MS8_M (TSOP, 8-Leads, Body 3x3mm, Pitch 0.65mm, IPC Low Density)
pins: 1 VDD (power), 2 ~{CS} (in), 3 SCK (in), 4 SDI (in), 5 ~{LDAC} (in), 6 VREF (in), 7 VSS (power), 8 VOUT (out)

## MCP4901-E/P
designator U?
8-Bit DAC with SPI Interface, 8-Pin PDIP, Extended Temperature; Manufacturer: Microchip; PartNumber: MCP4901-E/P; DatasheetVersion: revA, Apr-2010; PackageVersion: revBB, Aug-2009; PackageReference: PDIP300-P8; PackageDescription: 8-Lead Plastic Dual In-Line (P) - 300 mil Body [PDIP]; Supplier 1: Digi-Key; Supplier Part Number 1: MCP4901-E/P-ND; Supplier 2: Farnell; Supplier Part Number 2: 1815946; Supplier 3: Newark; Supplier Part Number 3: 53R0090; Supplier 4: Mouser; Supplier Part Number 4: 579-MCP4901-E/P; Mounting Technology: Through Hole; Code_JEDEC: MS-001; ComponentLink1Description: Manufacturer URL; ComponentLink1URL: http://www.microchip.com/; ComponentLink2Description: Datasheet; ComponentLink2URL: http://ww1.microchip.com/downloads/en/DeviceDoc/22248a.pdf; ComponentLink3Description: Package Specification; ComponentLink3URL: http://www.microchip.com/stellent/groups/techpub_sg/documents/packagingspec/en012702.pdf
footprint PDIP300-P8 (DIP, 8-Leads, Row Spacing 7.62mm, Pitch 2.54mm, Body 9.5x6.6mm)
pins: 1 VDD (power), 2 ~{CS} (in), 3 SCK (in), 4 SDI (in), 5 ~{LDAC} (in), 6 VREF (in), 7 VSS (power), 8 VOUT (out)

## MCP4901-E/SN
designator U?
8-Bit DAC with SPI Interface, 8-Pin SOIC 150mil, Extended Temperature; Manufacturer: Microchip; PartNumber: MCP4901-E/SN; DatasheetVersion: revA, Apr-2010; PackageVersion: revBB, Aug-2009; PackageReference: SOIC-SN8; PackageDescription: 8-Lead Plastic Small Outline (SN) - Narrow, 3.90mm Body [SOIC]; Supplier 1: Digi-Key; Supplier Part Number 1: MCP4901-E/SN-ND; Supplier 2: Mouser; Supplier Part Number 2: 579-MCP4901-E/SN; Mounting Technology: Surface Mount; Code_JEDEC: MS-012; Code_IPC: SOIC127P600-8; ComponentLink1Description: Manufacturer URL; ComponentLink1URL: http://www.microchip.com/; ComponentLink2Description: Datasheet; ComponentLink2URL: http://ww1.microchip.com/downloads/en/DeviceDoc/22248a.pdf; ComponentLink3Description: Package Specification; ComponentLink3URL: http://www.microchip.com/stellent/groups/techpub_sg/documents/packagingspec/en012702.pdf
footprint SOIC-SN8_N (SOIC, 8-Leads, Body 4.9x3.8mm, Pitch 1.27mm, IPC Medium Density)
footprint SOIC-SN8_L (SOIC, 8-Leads, Body 4.9x3.8mm, Pitch 1.27mm, IPC High Density)
footprint SOIC-SN8_M (SOIC, 8-Leads, Body 4.9x3.8mm, Pitch 1.27mm, IPC Low Density)
pins: 1 VDD (power), 2 ~{CS} (in), 3 SCK (in), 4 SDI (in), 5 ~{LDAC} (in), 6 VREF (in), 7 VSS (power), 8 VOUT (out)

## MCP4901T-E/MC
designator U?
8-Bit DAC with SPI Interface, 8-Pin DFN, Extended Temperature, Tape and Reel; Manufacturer: Microchip; PartNumber: MCP4901T-E/MC; DatasheetVersion: revA, Apr-2010; PackageVersion: revBB, Aug-2009; PackageReference: DFN-MC8; PackageDescription: 8-Lead Plastic Dual Flat, No Lead Package (MC) - 2x3x0.9mm Body [DFN]; Supplier 1: Digi-Key; Supplier Part Number 1: MCP4901T-E/MC-ND; Supplier 2: Mouser; Supplier Part Number 2: 579-MCP4901T-E/MC; Mounting Technology: Surface Mount; ComponentLink1Description: Manufacturer URL; ComponentLink1URL: http://www.microchip.com/; ComponentLink2Description: Datasheet; ComponentLink2URL: http://ww1.microchip.com/downloads/en/DeviceDoc/22248a.pdf; ComponentLink3Description: Package Specification; ComponentLink3URL: http://www.microchip.com/stellent/groups/techpub_sg/documents/packagingspec/en012702.pdf
footprint DFN-MC8 (SON, 8-Leads, Body 2x3mm, Pitch 0.5mm, Microchip Recommended)
pins: 1 VDD (power), 2 ~{CS} (in), 3 SCK (in), 4 SDI (in), 5 ~{LDAC} (in), 6 VREF (in), 7 VSS (power), 8 VOUT (out), 9 EP

## MCP4901T-E/MS
designator U?
8-Bit DAC with SPI Interface, 8-Pin MSOP, Extended Temperature, Tape and Reel; Manufacturer: Microchip; PartNumber: MCP4901T-E/MS; DatasheetVersion: revA, Apr-2010; PackageVersion: revBB, Aug-2009; PackageReference: MSOP-MS8; PackageDescription: 8-Lead Plastic Micro Small Outline Package (MS) [MSOP]; Supplier 1: Digi-Key; Supplier Part Number 1: MCP4901T-E/MS-ND; Supplier 2: Mouser; Supplier Part Number 2: 579-MCP4901T-E/MS; Mounting Technology: Surface Mount; ComponentLink1Description: Manufacturer URL; ComponentLink1URL: http://www.microchip.com/; ComponentLink2Description: Datasheet; ComponentLink2URL: http://ww1.microchip.com/downloads/en/DeviceDoc/22248a.pdf; ComponentLink3Description: Package Specification; ComponentLink3URL: http://www.microchip.com/stellent/groups/techpub_sg/documents/packagingspec/en012702.pdf
footprint MSOP-MS8_N (TSOP, 8-Leads, Body 3x3mm, Pitch 0.65mm, IPC Medium Density)
footprint MSOP-MS8_L (TSOP, 8-Leads, Body 3x3mm, Pitch 0.65mm, IPC High Density)
footprint MSOP-MS8_M (TSOP, 8-Leads, Body 3x3mm, Pitch 0.65mm, IPC Low Density)
pins: 1 VDD (power), 2 ~{CS} (in), 3 SCK (in), 4 SDI (in), 5 ~{LDAC} (in), 6 VREF (in), 7 VSS (power), 8 VOUT (out)

## MCP4901T-E/SN
designator U?
8-Bit DAC with SPI Interface, 8-Pin SOIC 150mil, Extended Temperature, Tape and Reel; Manufacturer: Microchip; PartNumber: MCP4901T-E/SN; DatasheetVersion: revA, Apr-2010; PackageVersion: revBB, Aug-2009; PackageReference: SOIC-SN8; PackageDescription: 8-Lead Plastic Small Outline (SN) - Narrow, 3.90mm Body [SOIC]; Supplier 1: Digi-Key; Supplier Part Number 1: MCP4901T-E/SN-ND; Supplier 2: Mouser; Supplier Part Number 2: 579-MCP4901T-E/SN; Mounting Technology: Surface Mount; Code_JEDEC: MS-012; Code_IPC: SOIC127P600-8; ComponentLink1Description: Manufacturer URL; ComponentLink1URL: http://www.microchip.com/; ComponentLink2Description: Datasheet; ComponentLink2URL: http://ww1.microchip.com/downloads/en/DeviceDoc/22248a.pdf; ComponentLink3Description: Package Specification; ComponentLink3URL: http://www.microchip.com/stellent/groups/techpub_sg/documents/packagingspec/en012702.pdf
footprint SOIC-SN8_N (SOIC, 8-Leads, Body 4.9x3.8mm, Pitch 1.27mm, IPC Medium Density)
footprint SOIC-SN8_L (SOIC, 8-Leads, Body 4.9x3.8mm, Pitch 1.27mm, IPC High Density)
footprint SOIC-SN8_M (SOIC, 8-Leads, Body 4.9x3.8mm, Pitch 1.27mm, IPC Low Density)
pins: 1 VDD (power), 2 ~{CS} (in), 3 SCK (in), 4 SDI (in), 5 ~{LDAC} (in), 6 VREF (in), 7 VSS (power), 8 VOUT (out)

## MCP4902-E/P
designator U?
8-Bit DAC with SPI Interface, 14-Pin PDIP, Extended Temperature; Manufacturer: Microchip; PartNumber: MCP4902-E/P; DatasheetVersion: revA, Apr-2010; PackageVersion: revBB, Aug-2009; PackageReference: PDIP300-P14; PackageDescription: 14-Lead Plastic Dual In-Line (P) - 300 mil Body [PDIP]; Supplier 1: Digi-Key; Supplier Part Number 1: MCP4902-E/P-ND; Supplier 2: Newark; Supplier Part Number 2: 53R0095; Supplier 3: Mouser; Supplier Part Number 3: 579-MCP4902-E/P; Mounting Technology: Through Hole; ComponentLink1Description: Manufacturer URL; ComponentLink1URL: http://www.microchip.com/; ComponentLink2Description: Datasheet; ComponentLink2URL: http://ww1.microchip.com/downloads/en/DeviceDoc/22250A.pdf; ComponentLink3Description: Package Specification; ComponentLink3URL: http://www.microchip.com/stellent/groups/techpub_sg/documents/packagingspec/en012702.pdf
footprint PDIP300-P14 (DIP, 14-Leads, Row Spacing 7.62mm, Pitch 2.54mm, Body 19.2x6.6mm)
pins: 1 VDD (power), 2 NC, 3 ~{CS} (in), 4 SCK (in), 5 SDI (in), 6 NC, 7 NC, 8 ~{LDAC} (in), 9 ~{SHDN} (in), 10 VOUTB (out), 11 VREFB (in), 12 VSS (power), 13 VREFA (in), 14 VOUTA (out)

## MCP4902-E/SL
designator U?
8-Bit DAC with SPI Interface, 14-Pin SOIC 150mil, Extended Temperature; Manufacturer: Microchip; PartNumber: MCP4902-E/SL; DatasheetVersion: revA, Apr-2010; PackageVersion: revBB, Aug-2009; PackageReference: SOIC-SL14; PackageDescription: 14-Lead Plastic Small Outline (SL) - Narrow, 3.90mm Body [SOIC]; Supplier 1: Digi-Key; Supplier Part Number 1: MCP4902-E/SL-ND; Supplier 2: Farnell; Supplier Part Number 2: 1834913; Supplier 3: Newark; Supplier Part Number 3: 53R0096; Supplier 4: Mouser; Supplier Part Number 4: 579-MCP4902-E/SL; Mounting Technology: Surface Mount; Code_JEDEC: MS-012-AB; Code_IPC: SOIC127P600-14; ComponentLink1Description: Manufacturer URL; ComponentLink1URL: http://www.microchip.com/; ComponentLink2Description: Datasheet; ComponentLink2URL: http://ww1.microchip.com/downloads/en/DeviceDoc/22250A.pdf; ComponentLink3Description: Package Specification; ComponentLink3URL: http://www.microchip.com/stellent/groups/techpub_sg/documents/packagingspec/en012702.pdf
footprint SOIC-SL14_N (SOIC, 14-Leads, Body 8.7x3.9mm, Pitch 1.27mm, IPC Medium Density)
footprint SOIC-SL14_L (SOIC, 14-Leads, Body 8.7x3.9mm, Pitch 1.27mm, IPC High Density)
footprint SOIC-SL14_M (SOIC, 14-Leads, Body 8.7x3.9mm, Pitch 1.27mm, IPC Low Density)
pins: 1 VDD (power), 2 NC, 3 ~{CS} (in), 4 SCK (in), 5 SDI (in), 6 NC, 7 NC, 8 ~{LDAC} (in), 9 ~{SHDN} (in), 10 VOUTB (out), 11 VREFB (in), 12 VSS (power), 13 VREFA (in), 14 VOUTA (out)

## MCP4902-E/ST
designator U?
8-Bit DAC with SPI Interface, 14-Pin TSSOP, Extended Temperature; Manufacturer: Microchip; PartNumber: MCP4902-E/ST; DatasheetVersion: revA, Apr-2010; PackageVersion: revBB, Aug-2009; PackageReference: TSSOP-ST14; PackageDescription: 14-Lead Plastic Thin Shrink Small Outline (ST) - 4.4mm Body [TSSOP]; Supplier 1: Digi-Key; Supplier Part Number 1: MCP4902-E/ST-ND; Supplier 2: Farnell; Supplier Part Number 2: 1815948; Supplier 3: Newark; Supplier Part Number 3: 53R0097; Supplier 4: Mouser; Supplier Part Number 4: 579-MCP4902-E/ST; Mounting Technology: Surface Mount; ComponentLink1Description: Manufacturer URL; ComponentLink1URL: http://www.microchip.com/; ComponentLink2Description: Datasheet; ComponentLink2URL: http://ww1.microchip.com/downloads/en/DeviceDoc/22250A.pdf; ComponentLink3Description: Package Specification; ComponentLink3URL: http://www.microchip.com/stellent/groups/techpub_sg/documents/packagingspec/en012702.pdf
footprint TSSOP-ST14_N (TSOP, 14-Leads, Body 5x4.4mm, Pitch 0.65mm, IPC Medium Density)
footprint TSSOP-ST14_L (TSOP, 14-Leads, Body 5x4.4mm, Pitch 0.65mm, IPC High Density)
footprint TSSOP-ST14_M (TSOP, 14-Leads, Body 5x4.4mm, Pitch 0.65mm, IPC Low Density)
pins: 1 VDD (power), 2 NC, 3 ~{CS} (in), 4 SCK (in), 5 SDI (in), 6 NC, 7 NC, 8 ~{LDAC} (in), 9 ~{SHDN} (in), 10 VOUTB (out), 11 VREFB (in), 12 VSS (power), 13 VREFA (in), 14 VOUTA (out)

## MCP4902T-E/SL
designator U?
8-Bit DAC with SPI Interface, 14-Pin SOIC 150mil, Extended Temperature, Tape and Reel; Manufacturer: Microchip; PartNumber: MCP4902T-E/SL; DatasheetVersion: revA, Apr-2010; PackageVersion: revBB, Aug-2009; PackageReference: SOIC-SL14; PackageDescription: 14-Lead Plastic Small Outline (SL) - Narrow, 3.90mm Body [SOIC]; Supplier 1: Digi-Key; Supplier Part Number 1: MCP4902T-E/SL-ND; Supplier 2: Mouser; Supplier Part Number 2: 579-MCP4902T-E/SL; Mounting Technology: Surface Mount; Code_JEDEC: MS-012-AB; Code_IPC: SOIC127P600-14; ComponentLink1Description: Manufacturer URL; ComponentLink1URL: http://www.microchip.com/; ComponentLink2Description: Datasheet; ComponentLink2URL: http://ww1.microchip.com/downloads/en/DeviceDoc/22250A.pdf; ComponentLink3Description: Package Specification; ComponentLink3URL: http://www.microchip.com/stellent/groups/techpub_sg/documents/packagingspec/en012702.pdf
footprint SOIC-SL14_N (SOIC, 14-Leads, Body 8.7x3.9mm, Pitch 1.27mm, IPC Medium Density)
footprint SOIC-SL14_L (SOIC, 14-Leads, Body 8.7x3.9mm, Pitch 1.27mm, IPC High Density)
footprint SOIC-SL14_M (SOIC, 14-Leads, Body 8.7x3.9mm, Pitch 1.27mm, IPC Low Density)
pins: 1 VDD (power), 2 NC, 3 ~{CS} (in), 4 SCK (in), 5 SDI (in), 6 NC, 7 NC, 8 ~{LDAC} (in), 9 ~{SHDN} (in), 10 VOUTB (out), 11 VREFB (in), 12 VSS (power), 13 VREFA (in), 14 VOUTA (out)

## MCP4902T-E/ST
designator U?
8-Bit DAC with SPI Interface, 14-Pin TSSOP, Extended Temperature, Tape and Reel; Manufacturer: Microchip; PartNumber: MCP4902T-E/ST; DatasheetVersion: revA, Apr-2010; PackageVersion: revBB, Aug-2009; PackageReference: TSSOP-ST14; PackageDescription: 14-Lead Plastic Thin Shrink Small Outline (ST) - 4.4mm Body [TSSOP]; Supplier 1: Digi-Key; Supplier Part Number 1: MCP4902T-E/ST-ND; Supplier 2: Mouser; Supplier Part Number 2: 579-MCP4902T-E/ST; Mounting Technology: Surface Mount; ComponentLink1Description: Manufacturer URL; ComponentLink1URL: http://www.microchip.com/; ComponentLink2Description: Datasheet; ComponentLink2URL: http://ww1.microchip.com/downloads/en/DeviceDoc/22250A.pdf; ComponentLink3Description: Package Specification; ComponentLink3URL: http://www.microchip.com/stellent/groups/techpub_sg/documents/packagingspec/en012702.pdf
footprint TSSOP-ST14_N (TSOP, 14-Leads, Body 5x4.4mm, Pitch 0.65mm, IPC Medium Density)
footprint TSSOP-ST14_L (TSOP, 14-Leads, Body 5x4.4mm, Pitch 0.65mm, IPC High Density)
footprint TSSOP-ST14_M (TSOP, 14-Leads, Body 5x4.4mm, Pitch 0.65mm, IPC Low Density)
pins: 1 VDD (power), 2 NC, 3 ~{CS} (in), 4 SCK (in), 5 SDI (in), 6 NC, 7 NC, 8 ~{LDAC} (in), 9 ~{SHDN} (in), 10 VOUTB (out), 11 VREFB (in), 12 VSS (power), 13 VREFA (in), 14 VOUTA (out)

## MCP4911-E/MC
designator U?
10-Bit DAC with SPI Interface, 8-Pin DFN, Extended Temperature; Manufacturer: Microchip; PartNumber: MCP4911-E/MC; DatasheetVersion: revA, Apr-2010; PackageVersion: revBB, Aug-2009; PackageReference: DFN-MC8; PackageDescription: 8-Lead Plastic Dual Flat, No Lead Package (MC) - 2x3x0.9mm Body [DFN]; Supplier 1: Digi-Key; Supplier Part Number 1: MCP4911-E/MC-ND; Supplier 2: Farnell; Supplier Part Number 2: 1852037; Supplier 3: Newark; Supplier Part Number 3: 53R0100; Supplier 4: Mouser; Supplier Part Number 4: 579-MCP4911-E/MC; Mounting Technology: Surface Mount; ComponentLink1Description: Manufacturer URL; ComponentLink1URL: http://www.microchip.com/; ComponentLink2Description: Datasheet; ComponentLink2URL: http://ww1.microchip.com/downloads/en/DeviceDoc/22248a.pdf; ComponentLink3Description: Package Specification; ComponentLink3URL: http://www.microchip.com/stellent/groups/techpub_sg/documents/packagingspec/en012702.pdf
footprint DFN-MC8 (SON, 8-Leads, Body 2x3mm, Pitch 0.5mm, Microchip Recommended)
pins: 1 VDD (power), 2 ~{CS} (in), 3 SCK (in), 4 SDI (in), 5 ~{LDAC} (in), 6 VREF (in), 7 VSS (power), 8 VOUT (out), 9 EP

## MCP4911-E/MS
designator U?
10-Bit DAC with SPI Interface, 8-Pin MSOP, Extended Temperature; Manufacturer: Microchip; PartNumber: MCP4911-E/MS; DatasheetVersion: revA, Apr-2010; PackageVersion: revBB, Aug-2009; PackageReference: MSOP-MS8; PackageDescription: 8-Lead Plastic Micro Small Outline Package (MS) [MSOP]; Supplier 1: Digi-Key; Supplier Part Number 1: MCP4911-E/MS-ND; Supplier 2: Farnell; Supplier Part Number 2: 1815949; Supplier 3: Newark; Supplier Part Number 3: 53R0101; Supplier 4: Mouser; Supplier Part Number 4: 579-MCP4911-E/MS; Mounting Technology: Surface Mount; ComponentLink1Description: Manufacturer URL; ComponentLink1URL: http://www.microchip.com/; ComponentLink2Description: Datasheet; ComponentLink2URL: http://ww1.microchip.com/downloads/en/DeviceDoc/22248a.pdf; ComponentLink3Description: Package Specification; ComponentLink3URL: http://www.microchip.com/stellent/groups/techpub_sg/documents/packagingspec/en012702.pdf
footprint MSOP-MS8_N (TSOP, 8-Leads, Body 3x3mm, Pitch 0.65mm, IPC Medium Density)
footprint MSOP-MS8_L (TSOP, 8-Leads, Body 3x3mm, Pitch 0.65mm, IPC High Density)
footprint MSOP-MS8_M (TSOP, 8-Leads, Body 3x3mm, Pitch 0.65mm, IPC Low Density)
pins: 1 VDD (power), 2 ~{CS} (in), 3 SCK (in), 4 SDI (in), 5 ~{LDAC} (in), 6 VREF (in), 7 VSS (power), 8 VOUT (out)

## MCP4911-E/P
designator U?
10-Bit DAC with SPI Interface, 8-Pin PDIP, Extended Temperature; Manufacturer: Microchip; PartNumber: MCP4911-E/P; DatasheetVersion: revA, Apr-2010; PackageVersion: revBB, Aug-2009; PackageReference: PDIP300-P8; PackageDescription: 8-Lead Plastic Dual In-Line (P) - 300 mil Body [PDIP]; Supplier 1: Digi-Key; Supplier Part Number 1: MCP4911-E/P-ND; Supplier 2: Farnell; Supplier Part Number 2: 1815950; Supplier 3: Newark; Supplier Part Number 3: 53R0102; Supplier 4: Mouser; Supplier Part Number 4: 579-MCP4911-E/P; Mounting Technology: Through Hole; Code_JEDEC: MS-001; ComponentLink1Description: Manufacturer URL; ComponentLink1URL: http://www.microchip.com/; ComponentLink2Description: Datasheet; ComponentLink2URL: http://ww1.microchip.com/downloads/en/DeviceDoc/22248a.pdf; ComponentLink3Description: Package Specification; ComponentLink3URL: http://www.microchip.com/stellent/groups/techpub_sg/documents/packagingspec/en012702.pdf
footprint PDIP300-P8 (DIP, 8-Leads, Row Spacing 7.62mm, Pitch 2.54mm, Body 9.5x6.6mm)
pins: 1 VDD (power), 2 ~{CS} (in), 3 SCK (in), 4 SDI (in), 5 ~{LDAC} (in), 6 VREF (in), 7 VSS (power), 8 VOUT (out)

## MCP4911-E/SN
designator U?
10-Bit DAC with SPI Interface, 8-Pin SOIC 150mil, Extended Temperature; Manufacturer: Microchip; PartNumber: MCP4911-E/SN; DatasheetVersion: revA, Apr-2010; PackageVersion: revBB, Aug-2009; PackageReference: SOIC-SN8; PackageDescription: 8-Lead Plastic Small Outline (SN) - Narrow, 3.90mm Body [SOIC]; Supplier 1: Digi-Key; Supplier Part Number 1: MCP4911-E/SN-ND; Supplier 2: Newark; Supplier Part Number 2: 53R0103; Supplier 3: Mouser; Supplier Part Number 3: 579-MCP4911-E/SN; Mounting Technology: Surface Mount; Code_JEDEC: MS-012; Code_IPC: SOIC127P600-8; ComponentLink1Description: Manufacturer URL; ComponentLink1URL: http://www.microchip.com/; ComponentLink2Description: Datasheet; ComponentLink2URL: http://ww1.microchip.com/downloads/en/DeviceDoc/22248a.pdf; ComponentLink3Description: Package Specification; ComponentLink3URL: http://www.microchip.com/stellent/groups/techpub_sg/documents/packagingspec/en012702.pdf
footprint SOIC-SN8_N (SOIC, 8-Leads, Body 4.9x3.8mm, Pitch 1.27mm, IPC Medium Density)
footprint SOIC-SN8_L (SOIC, 8-Leads, Body 4.9x3.8mm, Pitch 1.27mm, IPC High Density)
footprint SOIC-SN8_M (SOIC, 8-Leads, Body 4.9x3.8mm, Pitch 1.27mm, IPC Low Density)
pins: 1 VDD (power), 2 ~{CS} (in), 3 SCK (in), 4 SDI (in), 5 ~{LDAC} (in), 6 VREF (in), 7 VSS (power), 8 VOUT (out)

## MCP4911T-E/MC
designator U?
10-Bit DAC with SPI Interface, 8-Pin DFN, Extended Temperature, Tape and Reel; Manufacturer: Microchip; PartNumber: MCP4911T-E/MC; DatasheetVersion: revA, Apr-2010; PackageVersion: revBB, Aug-2009; PackageReference: DFN-MC8; PackageDescription: 8-Lead Plastic Dual Flat, No Lead Package (MC) - 2x3x0.9mm Body [DFN]; Supplier 1: Digi-Key; Supplier Part Number 1: MCP4911T-E/MC-ND; Supplier 2: Mouser; Supplier Part Number 2: 579-MCP4911T-E/MC; Mounting Technology: Surface Mount; ComponentLink1Description: Manufacturer URL; ComponentLink1URL: http://www.microchip.com/; ComponentLink2Description: Datasheet; ComponentLink2URL: http://ww1.microchip.com/downloads/en/DeviceDoc/22248a.pdf; ComponentLink3Description: Package Specification; ComponentLink3URL: http://www.microchip.com/stellent/groups/techpub_sg/documents/packagingspec/en012702.pdf
footprint DFN-MC8 (SON, 8-Leads, Body 2x3mm, Pitch 0.5mm, Microchip Recommended)
pins: 1 VDD (power), 2 ~{CS} (in), 3 SCK (in), 4 SDI (in), 5 ~{LDAC} (in), 6 VREF (in), 7 VSS (power), 8 VOUT (out), 9 EP

## MCP4911T-E/MS
designator U?
10-Bit DAC with SPI Interface, 8-Pin MSOP, Extended Temperature, Tape and Reel; Manufacturer: Microchip; PartNumber: MCP4911T-E/MS; DatasheetVersion: revA, Apr-2010; PackageVersion: revBB, Aug-2009; PackageReference: MSOP-MS8; PackageDescription: 8-Lead Plastic Micro Small Outline Package (MS) [MSOP]; Supplier 1: Digi-Key; Supplier Part Number 1: MCP4911T-E/MS-ND; Supplier 2: Mouser; Supplier Part Number 2: 579-MCP4911T-E/MS; Mounting Technology: Surface Mount; ComponentLink1Description: Manufacturer URL; ComponentLink1URL: http://www.microchip.com/; ComponentLink2Description: Datasheet; ComponentLink2URL: http://ww1.microchip.com/downloads/en/DeviceDoc/22248a.pdf; ComponentLink3Description: Package Specification; ComponentLink3URL: http://www.microchip.com/stellent/groups/techpub_sg/documents/packagingspec/en012702.pdf
footprint MSOP-MS8_N (TSOP, 8-Leads, Body 3x3mm, Pitch 0.65mm, IPC Medium Density)
footprint MSOP-MS8_L (TSOP, 8-Leads, Body 3x3mm, Pitch 0.65mm, IPC High Density)
footprint MSOP-MS8_M (TSOP, 8-Leads, Body 3x3mm, Pitch 0.65mm, IPC Low Density)
pins: 1 VDD (power), 2 ~{CS} (in), 3 SCK (in), 4 SDI (in), 5 ~{LDAC} (in), 6 VREF (in), 7 VSS (power), 8 VOUT (out)